# Altium footprint library Components - 25.03.23 - 18.20.PcbLib: 1 footprints
Each footprint in its own frame and in the unit in brackets; x right, y up, seen from the top. Pads: shape width x height; smd on the part's side, far side on the other; paste and mask are expansions set on the pad; w line width, h text height; cw(c..) or ccw(c..) is an arc to the next point about the centre after c.
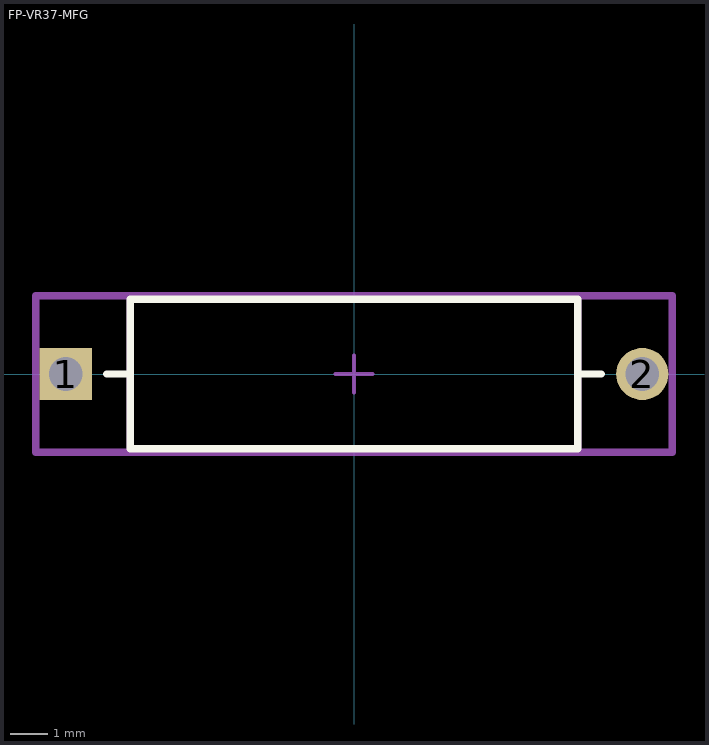
[diagram p0: the footprint, top view; thin cyan lines are the x and y axes]

## FP-VR37-MFG [mm]
pads (2):
  rect 1.4x1.4 hole 0.9 paste-1000 mask+0: 1(-7.73,0)
  round 1.4 hole 0.9 paste-1000 mask+0: 2(7.73,0)
Top Overlay:
  lines w0.2: -6.63,0 -6,0 ; 6,0 6.63,0 ; -6,-2 -6,2 6,2 6,-2 -6,-2
Top Assembly:
  lines w0.2: -8.53,-2.1 -8.53,2.1 8.53,2.1 8.53,-2.1 -8.53,-2.1
  text ".Designator" at 0,0.188 h1
Top 3D Body:
  lines w0.2: -6,-2 -6,2 6,2 6,-2 -6,-2
Top Courtyard:
  lines w0.2: -8.53,-2.1 -8.53,2.1 8.53,2.1 8.53,-2.1 -8.53,-2.1
Top Component Center:
  lines w0.1: -0.5,0 0.5,0 ; 0,-0.5 0,0.5
3D body "Res_Vishay_VR37000001204JA100_eec.STEP": height 0.25, standoff 0, extent -8.53,-2.1 8.53,2.1